# Altium schematic symbol library vitech_resistors.SchLib: 5 symbols
Pins are listed as number, name and electrical type; pins without a type are passive.

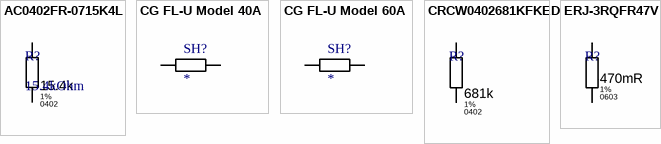
[diagram p0: symbols AC0402FR-0715K4L to ERJ-3RQFR47V]

## AC0402FR-0715K4L
designator R?, comment 15.4kOhm  value 15.4k  Package: 0402  Tolerance: 1%
RES 15.4kΩ ±1% 0.063W 0402; Manufacturer: YAGEO; Part Number: AC0402FR-0715K4L; Voltage: 50V; Component Type: SMD
footprint RES0402
pins: 1, 2

## CG FL-U Model 40A
designator SH?
link: http://www.cnchog.com/products/40a-220a-ID167.html
footprint CG FL-U Model 40A (Footprint not found)
pins: 1 A, 2 B

## CG FL-U Model 60A
designator SH?
link: http://www.cnchog.com/products/40a-220a-ID167.html
footprint CG FL-U Model 60A (Footprint not found)
pins: 1, 2

## CRCW0402681KFKED
designator R?, comment value 681k  Package: 0402  Tolerance: 1%  (hidden comment: 681kOhm)
RES SMD 681K OHM 1% 1/16W 0402; Part Number: CRCW0402681KFKED; Manufacturer: Vishay Dale; Voltage: 50V; Datasheet: https://www.vishay.com/docs/20035/dcrcwe3.pdf; Component Type: SMD
footprint RES0402
pins: 1, 2

## ERJ-3RQFR47V
designator R?, comment value 470mR  Package: 0603  Tolerance: 1%  (hidden comment: 0.47R)
RES 0.47 OHM 1% 1/10W 0603; Manufacturer: Panasonic Electronic Components; Part Number: ERJ-3RQFR47V; Voltage: 50V; Component Type: SMD
footprint RES0603
pins: 1, 2